# EAGLE library part TBA820 (library Audio-Power-amlifier V.2.0)
http://www.datasheetcatalog.com/datasheets_pdf/T/B/A/8/TBA820.shtml
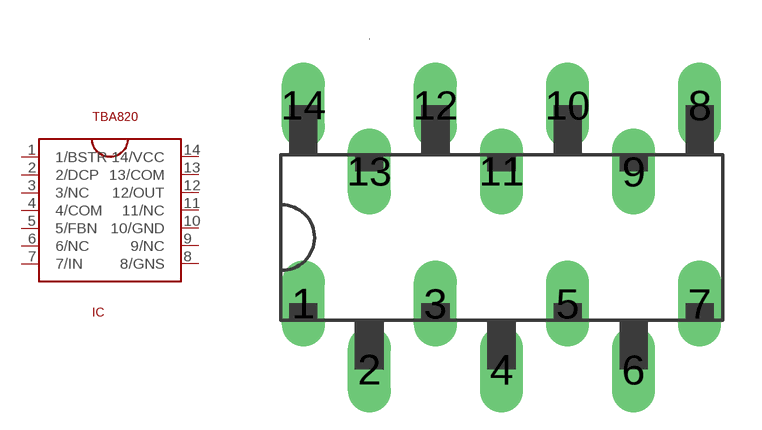
[diagram p66: symbol with the pads of CB21; footprint CB21]

Designator prefix IC

## TBA820  [CB21]
1  1/BSTR
2  2/DCP
3  3/NC  nc
4  4/COM
5  5/FBN
6  6/NC  nc
7  7/IN  in
8  8/GNS  pwr
9  9/NC  nc
10  10/GND  pwr
11  11/NC  nc
12  12/OUT  out
13  13/COM
14  14/VCC  pwr

## Footprint CB21 (pad centres in mm)
drill 1.1 long: 1 -7.62,-2.54; 2 -5.08,-5.08; 3 -2.54,-2.54; 4 0,-5.08; 5 2.54,-2.54; 6 5.08,-5.08; 7 7.62,-2.54; 8 7.62,5.08; 9 5.08,2.54; 10 2.54,5.08; 11 0,2.54; 12 -2.54,5.08; 13 -5.08,2.54; 14 -7.62,5.08